# EAGLE library part DS_FT240X_FT240X (library mainboard)
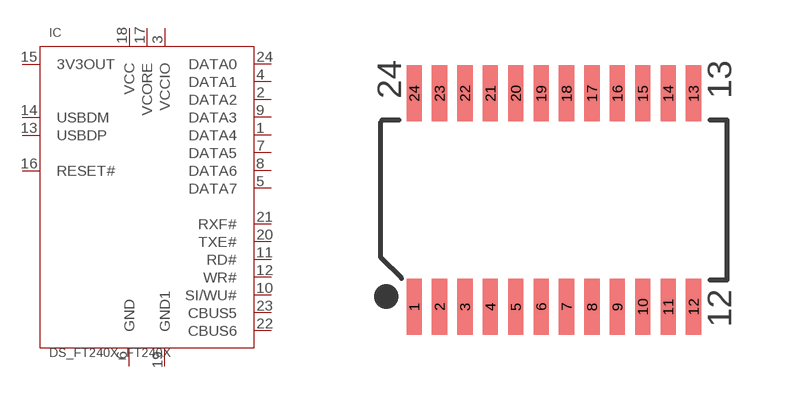
[diagram p1: symbol with the pads of DS_FT240X_SSOP24-0.635-8.65X4MM; footprint DS_FT240X_SSOP24-0.635-8.65X4MM]

Designator prefix IC

## DS_FT240X_FT240X  [DS_FT240X_SSOP24-0.635-8.65X4MM]
1  DATA4
2  DATA2
3  VCCIO
4  DATA1
5  DATA7
6  GND
7  DATA5
8  DATA6
9  DATA3
10  SI/WU#
11  RD#
12  WR#
13  USBDP
14  USBDM
15  3V3OUT
16  RESET#
17  VCORE
18  VCC
19  GND1
20  TXE#
21  RXF#
22  CBUS6
23  CBUS5
24  DATA0

## Footprint DS_FT240X_SSOP24-0.635-8.65X4MM (pad centres in mm)
smd 0.381 x 1.397: 1 -3.493,-2.667; 2 -2.857,-2.667; 3 -2.223,-2.667; 4 -1.587,-2.667; 5 -0.953,-2.667; 6 -0.318,-2.667; 7 0.318,-2.667; 8 0.953,-2.667; 9 1.587,-2.667; 10 2.223,-2.667; 11 2.857,-2.667; 12 3.493,-2.667; 13 3.493,2.667; 14 2.857,2.667; 15 2.223,2.667; 16 1.587,2.667; 17 0.953,2.667; 18 0.318,2.667; 19 -0.318,2.667; 20 -0.953,2.667; 21 -1.587,2.667; 22 -2.223,2.667; 23 -2.857,2.667; 24 -3.493,2.667